# Altium schematic symbol library laihi.SchLib: 296 symbols (part 1 of 3)
Pins are listed as number, name and electrical type; pins without a type are passive.

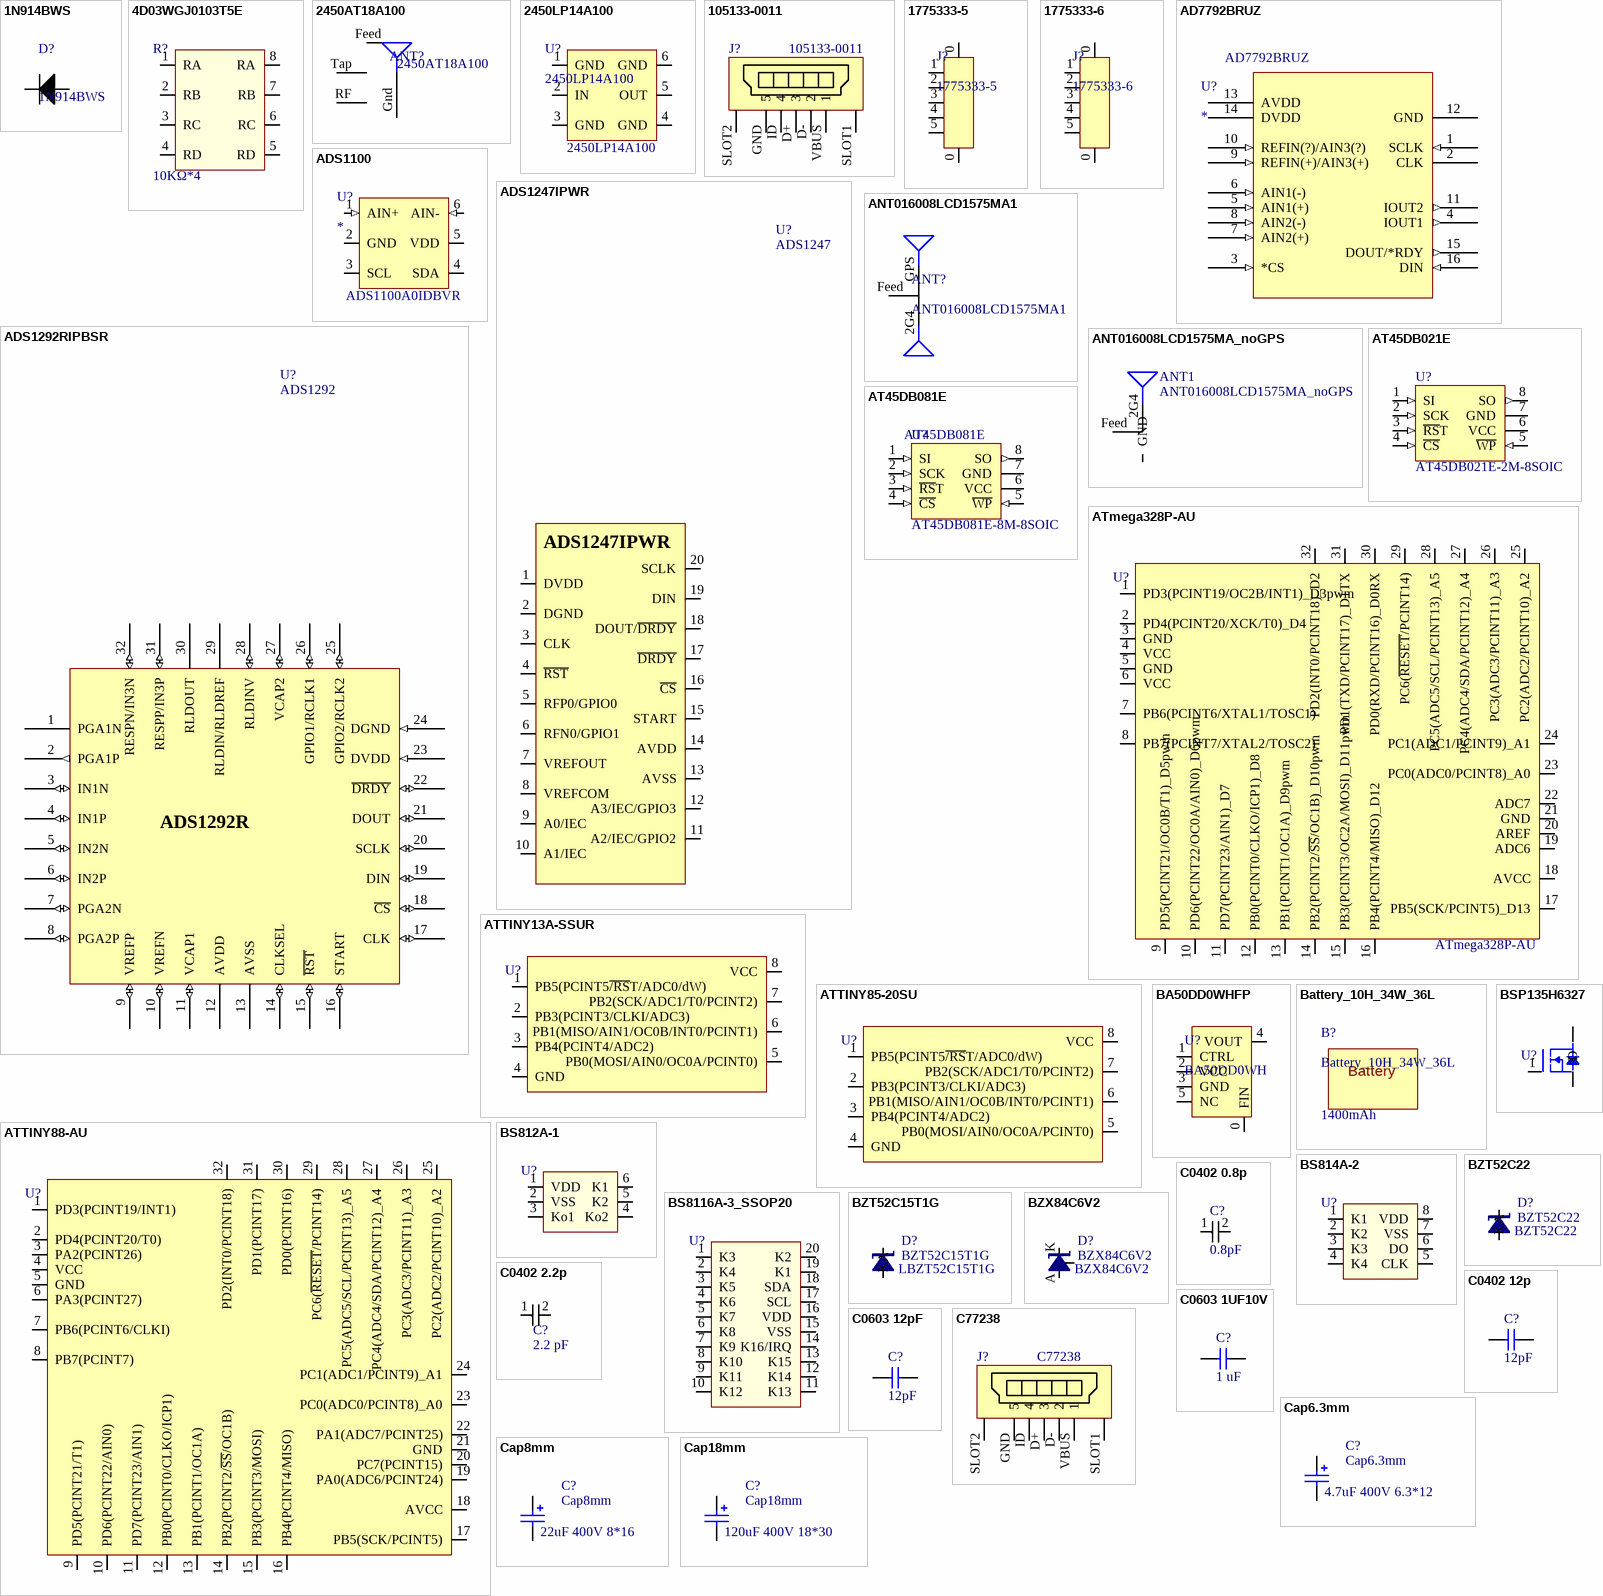
[diagram p0: symbols 1N914BWS to Cap18mm]

## 1N914BWS
designator D?
DIODE Small Signal Switching 4ns 5mA@0.7V; Manufacturer: Fairchild; MaxRating: 75V; Note: 替代 1N4148WS; Manufacturer No: 1N914BWS; Supplier: LC; Supplier_PN: C57759; PartType: SM; Pin Count: 2
footprint SOD-323FL-2N (SODFL, 2-Leads, Body 1.25x2.55mm, IPC Medium Density)
pins: 1, 2

## 4D03WGJ0103T5E
designator R?  value 10KΩ*4  (hidden comment: 4D03WGJ0103T5E)
10KΩ *4 (103) ±5% 编带 排阻 resistor array; Manufacturer: LC; Manufacturer No: 4D03WGJ0103T5E; Pins: 8; Supplier: LC; Supplier_PN: C29718; SuppliersPartNumber: C29718
footprint ARRAY0603-80P319X159-8N (Chip Array, Flat, 8-Leads, Pitch 0.80mm,  Body 3.20x1.60mm,  IPC Medium Density)
pins: 1 RA, 2 RB, 3 RC, 4 RD, 5 RD, 6 RC, 7 RB, 8 RA

## 2450AT18A100
designator ANT?
2.4GHz Mini Antenna, SMT; Manufacturer: Johanson; Manufacturer No: 2450AT18A100; Value: 2.4GHz Mini Antenna,; Supplier: LC; Supplier_PN: C89334; Comment_1: 2450AT18A100
footprint 2450AT18A100E (2.4GHz Mini Antenna,)
pins: Feed, Gnd, RF, Tap

## 2450LP14A100
designator U?
2.4 GHz Low Pass Filter; Manufacturer: JOHANSON; Pin Count: 6; Supplier: DigiKey; Supplier_PN: 712-1129-1-ND; Value: 2450LP14A100
footprint SON_0P5_2450LP14A100T (SON, 6-Leads, Body 1.60x0.80mm, Pitch 0.50mm, 2450LP14A100T 2.45G Low Pass Filter)
pins: 1 GND, 2 IN (io), 3 GND, 4 GND, 5 OUT (io), 6 GND

## 105133-0011
designator J?
I/F CONN Micro-USB Type:B vertical 100Vac 1A0 Contact:0R05 Molex:105133-0011 SMD; Manufacturer: Molex; Part Number: 105133-0011; Supplier: Digikey; Supplier_PN: WM10134CT-ND; Pin Count: 6; Manufacturer No: 105133-0011; PartType: SM
footprint 105133-0011 (Micro USB Type-B SMT vertical)
3D model 1051330011 (PCB3D Model)
pins: D+ 3, D- 2, GND 5, ID 4, SLOT1, SLOT2, VBUS 1

## 1775333-5
designator J?
CONN FPC BOTTOM 5POS 0.50MM R/A
footprint FFC_CONNECT_5
pins: 0, 0, 1, 2, 3, 4, 5

## 1775333-6
designator J?
CONN FPC BOTTOM 5POS 0.50MM R/A
footprint FFC_CONNECT_6
pins: 0, 0, 1, 2, 3, 4, 5

## AD7792BRUZ
designator U?  value AD7792BRUZ
IC ADC 16BIT SIG-DEL 3CH 16TSSOP; Type: DEV; Pin Count: 16; Supplier: Mouser; Supplier_PN: 584-AD7792BRUZ
footprint RU_16
pins: 1 SCLK (in), 2 CLK, 3 *CS (in), 4 IOUT1 (out), 5 AIN1(+) (in), 6 AIN1(-) (in), 7 AIN2(+) (in), 8 AIN2(-) (in), 9 REFIN(+)/AIN3(+) (in), 10 REFIN(?)/AIN3(?) (in), 11 IOUT2 (out), 12 GND, 13 AVDD (power), 14 DVDD (power), 15 DOUT/*RDY (out), 16 DIN (in)

## ADS1100
designator U?  value ADS1100A0IDBVR
IC ADC 16BIT Self-Cal 1chan 3-5V 90uA; Pin Count: 6; Supplier: LC; Supplier_PN: C23361
footprint SOT23-6 (TSOP, 6-Leads, Body 2.90x1.60mm, Pitch 0.95mm, IPC Medium Density)
pins: 1 AIN+ (in), 2 GND, 3 SCL (io), 4 SDA (io), 5 VDD, 6 AIN- (in)

## ADS1247IPWR
designator U?, comment ADS1247
ADS124x 24-Bit, 2-kSPS, Analog-To-Digital Converters, 5V supply; Manufacturer: Ti; Manufacturer No: ADS1247IPWR; Value: ADS1247IPWR; Part Number: ADS1247; Footprint: TSSOP20; Pin Count: 20; Supplier: LC; Supplier_PN: C26439; PartType: SM
footprint TSOP65P640X120-20N (TSOP, 20-Leads, Body 6.50x4.40mm, Pitch 0.65mm, IPC Medium Density)
pins: 1 DVDD (power), 2 DGND (power), 3 CLK (io), 4 ~{RST} (io), 5 RFP0/GPIO0 (io), 6 RFN0/GPIO1 (io), 7 VREFOUT (io), 8 VREFCOM (io), 9 A0/IEC (io), 10 A1/IEC (io), 11 A2/IEC/GPIO2 (io), 12 A3/IEC/GPIO3 (io), 13 AVSS (power), 14 AVDD (power), 15 START (io), 16 ~{CS} (io), 17 ~{DRDY} (io), 18 DOUT/~{DRDY} (io), 19 DIN (io), 20 SCLK (io)

## ADS1292RIPBSR
designator U?, comment ADS1292
2-Ch, 24Bits AFE ADC 8kSPS 2.7V~5.25V supply with respiration monitor; Part Number: ADS1292R; Manufacturer: Ti; Manufacturer No: ADS1292RIPBSS; Value: ADS1292RIPBSR; Datasheet: *; Footprint: QFN-48; Pin Count: 32; Supplier: Digi-Key; Supplier_PN: 296-30389-2-ND; PartType: SM
footprint TSQFP50P700X700X120-32N (TSQFP, 32-Leads, Body 5.00x5.00mm, Pitch 0.50mm, IPC Medium Density)
pins: 1 PGA1N (power), 2 PGA1P (out), 3 IN1N (io), 4 IN1P (io), 5 IN2N (io), 6 IN2P (io), 7 PGA2N (io), 8 PGA2P (io), 9 VREFP (io), 10 VREFN (io), 11 VCAP1 (io), 12 AVDD (power), 13 AVSS (power), 14 CLKSEL (io), 15 ~{RST} (io), 16 START (io), 17 CLK (io), 18 ~{CS} (io), 19 DIN (io), 20 SCLK (io), 21 DOUT (io), 22 ~{DRDY} (io), 23 DVDD (in), 24 DGND (in), 25 GPIO2/RCLK2 (io), 26 GPIO1/RCLK1 (io), 27 VCAP2 (io), 28 RLDINV (io), 29 RLDIN/RLDREF (power), 30 RLDOUT (power), 31 RESPP/IN3P (io), 32 RESPN/IN3N (io), 49 (power) hidden to GND

## ANT016008LCD1575MA1
designator ANT?, comment Comment_1: ANT016008LCD1575MA1  (hidden comment: C92014)
Dual Band 1.575GHz GPS and 2.4GHz; Manufacturer: TDK; Manufacturer No: ANT161575DT-2000AM1; Value: 1.575G and 2.4G; Supplier: LC; Supplier_PN: C92014
footprint ANT016008LCD1575MA1 (TDK Multilayer Antenna GPS and 2.4G~2.484G)
pins: 2G4, Feed, GPS

## ANT016008LCD1575MA_noGPS
designator ANT1
Dual Band 1.575GHz GPS and 2.4GHz; Manufacturer: TDK; Manufacturer No: ANT161575DT-2000AM1; Value: 1.575G and 2.4G; Supplier: LC; Supplier_PN: C92014
footprint ANT016008LCD1575MA1_GND_mcut (双频天线)
pins: 2 GND, 2G4, Feed

## AT45DB021E
designator U?, comment AT45DB021E-2M-8SOIC
IC FLASH 2MBIT 70MHZ 8SOIC; Manufacturer: Adesto Technologies; Manufacturer No: AT45DB021E-SSHN-T; Part Number: AT45DB021E; Supplier_PN: 1265-1081-1-ND; PartType: SM; Pin Count: 8; Supplier: Digi-Key; Value: AT45DB021E
footprint SO8-STX
3D model SOIC8
pins: 1 SI (in), 2 SCK (in), 3 ~{RS}T (in), 4 ~{CS} (in), 5 ~{WP} (in), 6 VCC (power), 7 GND (power), 8 SO (out)

## AT45DB081E
designator U?, comment AT45DB081E-8M-8SOIC  value AT45DB081E
IC FLASH 8MBIT 85MHZ 8SOIC; Manufacturer: Adesto Technologies; Manufacturer No: AT45DB081E-SSHN-T; Part Number: AT45DB081E; Supplier_PN: 1265-1085-1-ND; PartType: SM; Pin Count: 8; Supplier: Digi-Key
footprint SO8-STX
3D model SOIC8
pins: 1 SI (in), 2 SCK (in), 3 ~{RS}T (in), 4 ~{CS} (in), 5 ~{WP} (in), 6 VCC (power), 7 GND (power), 8 SO (out)

## ATmega328P-AU
designator U?
-40~85C 8-bit MCU AVR  enhanced RISC architecture, TQFP 32pin, 7x7mm; Manufacturer: Atmel; SuppliersPartNumber: C14877; Supplier: LC; Supplier_PN: C14877; Manufacturer No: ATmega328P-AU
footprint TQFP80P900X900X120-32N (TQFP, 32-Leads, Body 7.00x7.00mm, Pitch 0.80mm, IPC Medium Density)
pins: 1 PD3(PCINT19/OC2B/INT1)_D3pwm, 2 PD4(PCINT20/XCK/T0)_D4, 3 GND, 4 VCC, 5 GND, 6 VCC, 7 PB6(PCINT6/XTAL1/TOSC1), 8 PB7(PCINT7/XTAL2/TOSC2), 9 PD5(PCINT21/OC0B/T1)_D5pwm, 10 PD6(PCINT22/OC0A/AIN0)_D6pwm, 11 PD7(PCINT23/AIN1)_D7, 12 PB0(PCINT0/CLKO/ICP1)_D8, 13 PB1(PCINT1/OC1A)_D9pwm, 14 PB2(PCINT2/~{SS}/OC1B)_D10pwm, 15 PB3(PCINT3/OC2A/MOSI)_D11pwm, 16 PB4(PCINT4/MISO)_D12, 17 PB5(SCK/PCINT5)_D13, 18 AVCC, 19 ADC6, 20 AREF, 21 GND, 22 ADC7, 23 PC0(ADC0/PCINT8)_A0, 24 PC1(ADC1/PCINT9)_A1, 25 PC2(ADC2/PCINT10)_A2, 26 PC3(ADC3/PCINT11)_A3, 27 PC4(ADC4/SDA/PCINT12)_A4, 28 PC5(ADC5/SCL/PCINT13)_A5, 29 PC6(~{RESET}/PCINT14), 30 PD0(RXD/PCINT16)_D0RX, 31 PD1(TXD/PCINT17)_D1TX, 32 PD2(INT0/PCINT18)_D2

## ATTINY13A-SSUR
designator U?  (value not drawn)
ATTINY13A-SSUR 编带 SOIC-8_150mil; Manufacturer: Atmel; SuppliersPartNumber: C40382; Supplier: LC; Supplier_PN: C40382; Manufacturer No: ATTINY13A-SSUR
footprint SOIC-8N-127P600 (SOIC Atmel 8S1 8pin 4mm by 5mm)
pins: 1 PB5(PCINT5~{/RS}T/ADC0/dW), 2 PB3(PCINT3/CLKI/ADC3), 3 PB4(PCINT4/ADC2), 4 GND, 5 PB0(MOSI/AIN0/OC0A/PCINT0), 6 PB1(MISO/AIN1/OC0B/INT0/PCINT1), 7 PB2(SCK/ADC1/T0/PCINT2), 8 VCC

## ATTINY85-20SU
designator U?  (value not drawn)
ATTINY85-20SU 编带 8S2封装 20MHz 8KRam; Manufacturer: Atmel; SuppliersPartNumber: C89852; Supplier: LC; Supplier_PN: C89852; Manufacturer No: ATTINY85-20SU
footprint SOIC8_ATMEL_8S2_8S1 (SOIC, 8-Leads, Body 5.25x5.30mm, Pitch 1.27mm, IPC Medium Density)
pins: 1 PB5(PCINT5~{/RS}T/ADC0/dW), 2 PB3(PCINT3/CLKI/ADC3), 3 PB4(PCINT4/ADC2), 4 GND, 5 PB0(MOSI/AIN0/OC0A/PCINT0), 6 PB1(MISO/AIN1/OC0B/INT0/PCINT1), 7 PB2(SCK/ADC1/T0/PCINT2), 8 VCC

## ATTINY88-AU
designator U?  (value not drawn)
ATTINY88-AU 编带 TQFP 封装 4MHz 8KRam; Manufacturer: Atmel; SuppliersPartNumber: https://item.taobao.com/item.htm?id=19753860362; Supplier: taobao; Supplier_PN: https://item.taobao.com/item.htm?id=19753860362; Manufacturer No: ATTINY88-AU
footprint TQFP80P900X900X120-32N (TQFP, 32-Leads, Body 7.00x7.00mm, Pitch 0.80mm, IPC Medium Density)
pins: 1 PD3(PCINT19/INT1), 2 PD4(PCINT20/T0), 3 PA2(PCINT26), 4 VCC, 5 GND, 6 PA3(PCINT27), 7 PB6(PCINT6/CLKI), 8 PB7(PCINT7), 9 PD5(PCINT21/T1), 10 PD6(PCINT22/AIN0), 11 PD7(PCINT23/AIN1), 12 PB0(PCINT0/CLKO/ICP1), 13 PB1(PCINT1/OC1A), 14 PB2(PCINT2/~{SS}/OC1B), 15 PB3(PCINT3/MOSI), 16 PB4(PCINT4/MISO), 17 PB5(SCK/PCINT5), 18 AVCC, 19 PA0(ADC6/PCINT24), 20 PC7(PCINT15), 21 GND, 22 PA1(ADC7/PCINT25), 23 PC0(ADC0/PCINT8)_A0, 24 PC1(ADC1/PCINT9)_A1, 25 PC2(ADC2/PCINT10)_A2, 26 PC3(ADC3/PCINT11)_A3, 27 PC4(ADC4/SDA/PCINT12)_A4, 28 PC5(ADC5/SCL/PCINT13)_A5, 29 PC6(~{RESET}/PCINT14), 30 PD0(PCINT16), 31 PD1(PCINT17), 32 PD2(INT0/PCINT18)

## BA50DD0WHFP
designator U?, comment BA50DD0WH
2A Fixed output LDO Rohm; Supplier 1: Digi-Key; Supplier Part Number 1: BA50DD0WHFPCT-ND
footprint HRP5 (2A Fixed output LDO Rohm)
pins: 0 FIN, 1 CTRL, 2 VCC, 3 GND, 4 VOUT, 5 NC

## Battery_10H_34W_36L
designator B?  value 1400mAh
Note: 无需焊接; Manufacturer: *; Manufacturer No: *; Supplier_PN: *; Supplier: 自供
footprint Battery_10H_34W_36L
text: Battery

## BS812A-1
designator U?  (value not drawn)
2键触摸; Manufacturer: Holtek; Manufacturer No: BS812A-1; Pins: 6; Supplier: LC; Supplier_PN: C81747
footprint SOT23-6 (TSOP, 6-Leads, Body 2.90x1.60mm, Pitch 0.95mm, IPC Medium Density)
pins: 1 VDD, 2 VSS, 3 Ko1, 4 Ko2, 5 K2, 6 K1

## BS814A-2
designator U?  (value not drawn)
4键触摸 串口; Manufacturer: Holtek; Manufacturer No: BS814A-2; Pins: 8; Supplier: LC; Supplier_PN: C81738
footprint SO8-STX
pins: 1 K1, 2 K2, 3 K3, 4 K4, 5 CLK, 6 DO, 7 VSS, 8 VDD

## BS8116A-3_SSOP20
designator U?  (value not drawn)
16键触摸 串口; Manufacturer: Holtek; Manufacturer No: BS8116A-3; Pins: 20; Supplier: LC; Supplier_PN: C89208
footprint SOP64P600X175-20N (SOP, 20-Leads, Body 8.66x3.90mm, Pitch 0.64mm, IPC Medium Density)
pins: 1 K3, 2 K4, 3 K5, 4 K6, 5 K7, 6 K8, 7 K9, 8 K10, 9 K11, 10 K12, 11 K13, 12 K14, 13 K15, 14 K16/IRQ, 15 VSS, 16 VDD, 17 SCL, 18 SDA, 19 K1, 20 K2

## BSP135H6327
designator U?  (value not drawn)
N-CHANNEL 600V depletion N-MOSFET 120mA; Manufacturer: Infineon Technologies; Manufacturer No: BSP135H6327; Pins: 4; Supplier: digikey; Supplier_PN: BSP135H6327XTSA1TR-ND
footprint SOT223 (SOT223, 4-Leads, Body 6.50x7.00mm (avg), Pitch 2.30mm, IPC Medium Density)
pins: 1 G, 2 D, 3 S, 4

## BZT52C15T1G
designator D?  value LBZT52C15T1G
SEMI DIODE ZENER LBZT52C15T1G  15V 500mW SMD SOD123; Manufacturer: LRC(乐山无线电); Manufacturer No: LBZT52C15T1G; Supplier: LC; Supplier_PN: C12748; PartType: SM; Pin Count: 2; MaxRating: 15V
footprint SOD123-DIODE-Schottky (SODFL, 2-Leads, Body 1.70x3.71mm, IPC Medium Density)
pins: 1 A, 2 K

## BZT52C22
designator D?
SEMI DIODE ZENER BZT52C22  22V 350mW SMD SOD123; Manufacturer: CJ江苏长电; Manufacturer No: BZT52C22; Supplier: LC; Supplier_PN: C2108; PartType: SM; Pin Count: 2; MaxRating: 22V; Value: BZT52C22
footprint SOD123-DIODE-Schottky (SODFL, 2-Leads, Body 1.70x3.71mm, IPC Medium Density)
pins: 1 A, 2 K

## BZX84C6V2
designator D?
SEMI DIODE ZENER BZX84C5V1 5V1 5% 350mW SMD SOT23; Manufacturer: Fairchild; MaxRating: 6.2; Part Number: BZX84C6V2; Manufacturer No: BZX84C6V2; Supplier: Digikey; Supplier_PN: BZX84C6V2FSCT-ND; PartType: SM; Pin Count: 3; Value: BZX84C6V2
3D model SOT23-3 (PCB3D Model)
footprint SOT23-A-NC-K (STX)
3D model SOT23
pins: ?1 NC, A, K

## C0402 0.8p
designator C?, comment 0.8pF
CAP CER 0.8pF 50V ?.1pF NP0 0402; Part Number: 0.8PF50V_0402; Manufacturer: Murata Electronics North America; Rating: COM; Manufacturer No: *; Supplier: Digi-Key; Supplier_PN: *; PartType: SM; ROHS: True; Pin Count: 2; MaxRating: 50V; Value: 0.8pF
3D model 0402-CAP (PCB3D Model)
footprint 0402-STX
pins: 1, 2

## C0402 2.2p
designator C?, comment 2.2 pF
CAP CER 2.2pF 50V ?.1pF NP0 0402; Part Number: 2.2PF50V_0402; Manufacturer: Murata Electronics North America; Manufacturer No: GRM1555C1H2R2BA01D; Rating: COM; Supplier: Digi-Key; Supplier_PN: 490-6227-1-ND; ComponentLink1URL: #http://search.murata.co.jp/Ceramy/image/img/A01X/G101/ENG/GRM1555C1H2R2BA01-01.pdf#; PartType: SM; ROHS: True; Pin Count: 2; Component Kind: Standard; MaxRating: 50V; Value: 2.2 pF
3D model 0402-CAP (PCB3D Model)
footprint 0402-STX
pins: 1, 2

## C0402 12p
designator C?, comment 12pF
Capacitor, NP0, 12pF, 50V; Part Number: C0402-12p; Manufacturer: *; Manufacturer No: *; Footprint: 0402; Pin Count: 2; Publisher: Nordic Semiconductor; Published: 2009-05-08; Note: 50V; Supplier: *; Supplier_PN: *; Value: 12pF
footprint 0402-STX
pins: 1, 2

## C0603 1UF10V
designator C?, comment 1 uF
Capacitor, X5R, 1uF, 10V; Part Number: C0603 1UF10V; Manufacturer: *; Manufacturer No: *; Footprint: 0603; Note: 10V; Supplier: *; Supplier_PN: *; Value: 1 uF
footprint 0603-STX (STX)
pins: 1, 2

## C0603 12pF
designator C?, comment 12pF
Capacitor, NP0, 12pF, 50V; Part Number: C0603 12pF; Manufacturer: *; Manufacturer No: *; Footprint: 0603; Pin Count: 2; Note: 50V; Supplier: *; Supplier_PN: *; Value: 12pF
footprint 0603-STX (STX)
pins: 1, 2

## C77238
designator J?
microUSB立创  全贴有柱无导位 平口外焊_PDF_C77238; Manufacturer: LC; Part Number: C77238; Supplier: LC; Supplier_PN: C77238; Pin Count: 5; Manufacturer No: C77238; PartType: SM
footprint C77238 (microUSB立创  全贴有柱无导位 平口外焊_PDF_C77238)
pins: D+ 3, D- 2, GND 5, ID 4, SLOT1, SLOT2, VBUS 1

## Cap6.3mm
designator C?  value 4.7uF 400V 6.3*12
Polarized Capacitor (Radial); Published: 8-Jun-2000; LatestRevisionDate: 17-Jul-2002; LatestRevisionNote: Re-released for DXP Platform.; PackageReference: RB7.6-15; Publisher: Altium Limited; PackageDescription: Polarized Capacitor (Radial); 2 Leads; SuppliersPartNumber: C106324; Supplier: LC
footprint RB6.3mm (Polarized Capacitor (Radial); 2 Leads)
simulation model CAP (Capacitor)
signal-integrity model Cap Pol
pins: 1, 2
1 alternate drawing of the same symbol

## Cap8mm
designator C?  value 22uF 400V 8*16
Polarized Capacitor (Radial); Published: 8-Jun-2000; LatestRevisionDate: 17-Jul-2002; LatestRevisionNote: Re-released for DXP Platform.; PackageReference: RB7.6-15; Publisher: Altium Limited; PackageDescription: Polarized Capacitor (Radial); 2 Leads; SuppliersPartNumber: C106586; Supplier: LC
footprint RB8mm (Polarized Capacitor (Radial); 2 Leads)
simulation model CAP (Capacitor)
signal-integrity model Cap Pol
pins: 1, 2
1 alternate drawing of the same symbol

## Cap18mm
designator C?  value 120uF 400V 18*30
Polarized Capacitor (Radial); Published: 8-Jun-2000; LatestRevisionDate: 17-Jul-2002; LatestRevisionNote: Re-released for DXP Platform.; PackageReference: RB7.6-15; Publisher: Altium Limited; PackageDescription: Polarized Capacitor (Radial); 2 Leads; SuppliersPartNumber: C46881; Supplier: LC
footprint RB18mm (Polarized Capacitor (Radial); 2 Leads)
simulation model CAP (Capacitor)
signal-integrity model Cap Pol
pins: 1, 2
1 alternate drawing of the same symbol

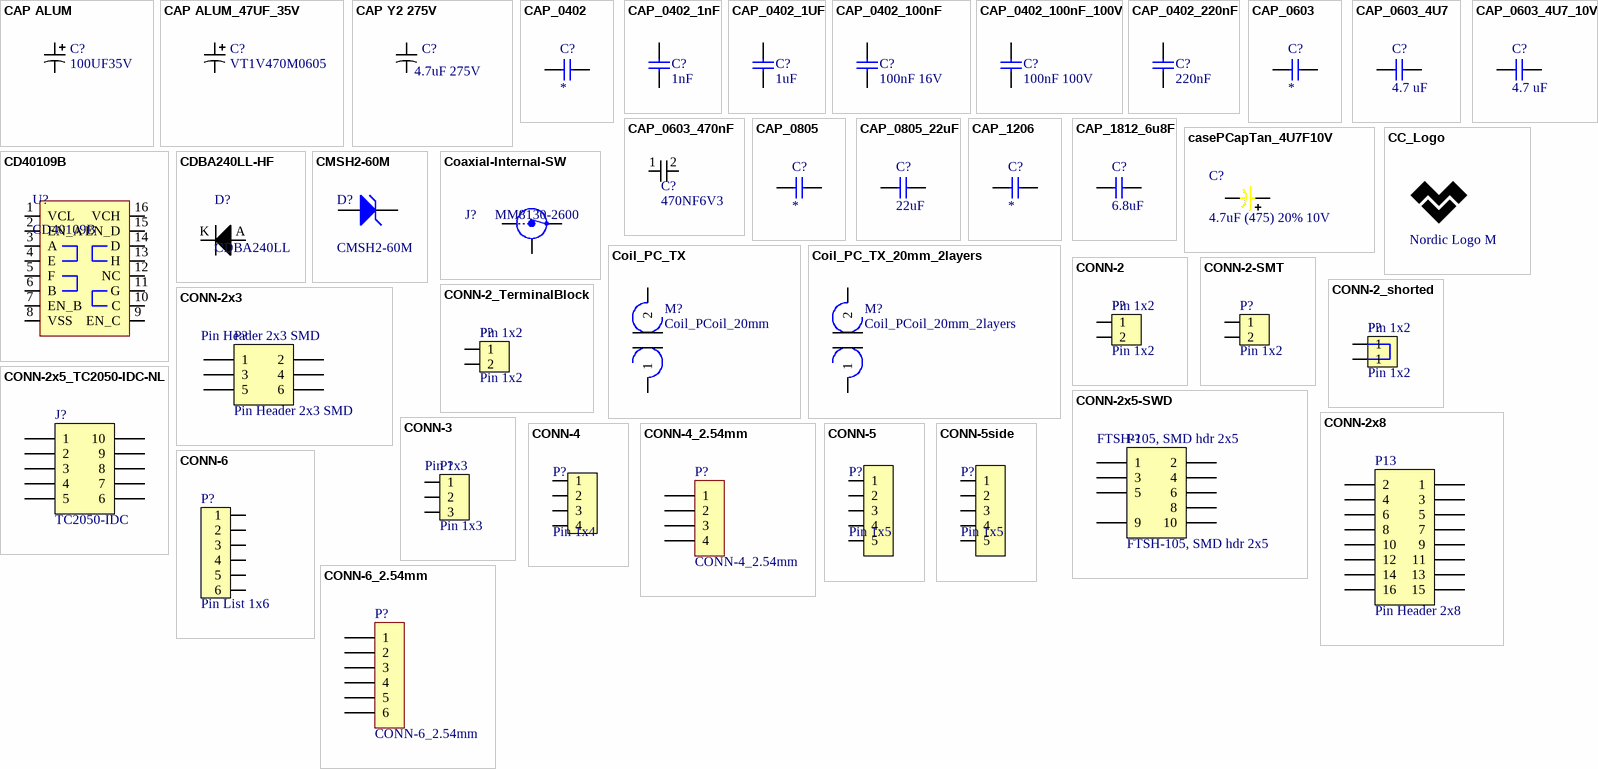
[diagram p1: symbols CAP ALUM to CONN-6_2.54mm]

## CAP ALUM
designator C?, comment 100UF35V
CAP ALUM 100UF 20% 35V SMD; Part Number: 100UF16V; Manufacturer: Panasonic; Manufacturer No: EEE-1VA101XP; Supplier: Digikey; Supplier_PN: PCE3951CT-ND; Pin Count: 2; Value: 100uF; MaxRating: 35V; PartType: SM
footprint EEE-1VA101XP (Aluminum Electrolytic Capacitor, Body 6.60x6.60x7.70mm, IPC Low Density)
pins: 1, 2

## CAP ALUM_47UF_35V
designator C?, comment VT1V470M0605
CAP ALUM 47UF 20% 35V SMD; Manufacturer: ROQANG; Part Number: VT1V470M0605; Supplier: LC; Supplier_PN: C90276; Pin Count: 2; Value: 47uF; MaxRating: 35V; Manufacturer No: VT1V470M0605; PartType: SM
footprint CAPAE7366X54N (Aluminum Electrolytic Capacitor, Body 6.60x6.60x5.40mm, IPC Medium Density)
pins: 1, 2

## CAP Y2 275V
designator C?, comment value 4.7uF 275V  (hidden comment: 4u7F275V)
CAP ALUM 100UF 20% 35V SMD; Part Number: C9342; Manufacturer: TENTA; Manufacturer No: MEY472K275A08; MaxRating: 275V; Supplier: LC; Supplier_PN: C9342; Pin Count: 2; PartType: SM
footprint Cap Y2 (CAP 13mm x 5mm Y2 CAP 275V)
pins: 1, 2

## CAP_0402
designator C?
Capacitor, NP0, ?%; Part Number: C0402; Note: 50V; Manufacturer: *; Manufacturer Part Number: *; Footprint: 0402; Pin Count: 2; Supplier: *; Supplier part number: *; Value: *
footprint 0402-STX
pins: 1, 2

## CAP_0402_1nF
designator C?, comment 1nF
Capacitor, X5R, 50V; Part Number: C0402; Manufacturer: *; Manufacturer Part Number: *; Footprint: 0402; Pin Count: 2; Note: 50V; Supplier: *; Supplier part number: 445-1256-1-ND; Value: 1nF; Supplier 1: Digi-Key; Supplier Part Number 1: 445-1256-1-ND
footprint 0402-STX
pins: 1, 2

## CAP_0402_1UF
designator C?, comment 1uF
Capacitor, X5R, 25V; Part Number: C0402; Manufacturer: *; Manufacturer Part Number: *; Footprint: 0402; Pin Count: 2; Note: 25V; Supplier: *; Supplier part number: 445-9081-1-ND; Value: 1uF
footprint 0402-STX
pins: 1, 2

## CAP_0402_100nF
designator C?, comment 100nF 16V
Capacitor, Y5V, 16V 100nF; Part Number: C0402; Manufacturer: Samsung; Manufacturer No: CL05F104ZO5NNNC; Footprint: 0402; Pin Count: 2; Note: 16V; Supplier: Digi-Key; Supplier_PN: 1276-1004-1-ND; Value: 100nF; MaxRating: 16V
footprint 0402-STX
pins: 1, 2

## CAP_0402_100nF_100V
designator C?, comment 100nF 100V
Capacitor, X5R, 100V 100nF; Part Number: C0402; Manufacturer: Murata; Manufacturer No: GRM155R62A104KE14D; Footprint: 0402; Pin Count: 2; Note: 100V; Supplier: Digi-Key; Supplier_PN: 490-10458-1-ND; Value: 100nF
footprint 0402-STX
pins: 1, 2

## CAP_0402_220nF
designator C?, comment 220nF
Capacitor, X5R, 35V 20%; Part Number: C0402; Manufacturer: Murata; Manufacturer No: GRM155R6YA224ME01D; Footprint: 0402; Pin Count: 2; Note: 35V; Supplier: Digi-Key; Supplier_PN: 490-10461-1-ND; Value: 220nF
footprint 0402-STX
pins: 1, 2

## CAP_0603
designator C?
Capacitor, X5R, ?0%; Part Number: C0603; Note: 10V; Manufacturer: *; Manufacturer Part Number: *; Footprint: 0603; Pin Count: 2; Supplier: *; Supplier part number: *; Value: *
footprint 0603-STX (STX)
pins: 1, 2

## CAP_0603_4U7
designator C?, comment 4.7 uF
Capacitor, X5R, 10% 4.7uF -55°C ~ 85°C; Part Number: C0603; Manufacturer: Murata Electronics; Manufacturer No: GRM188R6YA475KE15D; Note: 35V; Footprint: 0603; Pin Count: 2; Supplier: Digi-Key; Supplier_PN: 490-7205-1-ND; Value: 4.7 uF
footprint 0603-STX (STX)
pins: 1, 2

## CAP_0603_4U7_10V
designator C?, comment 4.7 uF
Capacitor, X5R, 10% 4.7uF -55°C ~ 85°C; Part Number: GRM188R61A475KE15D; Manufacturer: Murata Electronics; Note: 10V; Manufacturer No: GRM188R61A475KE15D; Footprint: 0603; Pin Count: 2; Supplier: LC; Supplier_PN: C71633; Value: 4.7 uF
footprint 0603-STX (STX)
pins: 1, 2

## CAP_0603_470nF
designator C?, comment 470NF6V3
CAP CER 0.47UF 50V 10% X5R 0603; Part Number: 470N6V3_0603; Manufacturer: Murata; Manufacturer No: GRM188R61H474KA12D; Value: 470nF; Supplier: Digikey; Supplier_PN: 490-11994-1-ND; PartType: SM; Pin Count: 2; Component Kind: Standard; MaxRating: 50V
simulation model CAP 0603
signal-integrity model CAP 0603
3D model 0603-CAP (PCB3D Model)
footprint 0603-STX (STX)
pins: 1, 2

## CAP_0805
designator C?
Capacitor, X5R, ?0%; Part Number: C0805; Note: 10V; Manufacturer: *; Manufacturer Part Number: *; Footprint: 0805; Pin Count: 2; Supplier: *; Supplier part number: *; Value: *
footprint 0805-STX (STX)
pins: 1, 2

## CAP_0805_22uF
designator C?, comment 22uF
Capacitor, X5R, CAP CER 22UF 25V X5R 0805; Manufacturer: Yageo; Manufacturer Part Number: CC0805MKX5R8BB226; Footprint: 0805; Pin Count: 2; Note: 25V; Supplier: Digi-key; Supplier_PN: 311-1903-2-ND; Value: 22uF
footprint 0805-STX (STX)
pins: 1, 2

## CAP_1206
designator C?
Capacitor, X5R, ?0%; Part Number: C1206; Note: 50V; Manufacturer: *; Manufacturer Part Number: *; Footprint: 1206; Pin Count: 2; Supplier: *; Supplier part number: *; Value: *
footprint 1206-STX (STX)
pins: 1, 2

## CAP_1812_6u8F
designator C?, comment 6.8uF
Capacitor, X5R, max 6.8uF 50V rating; Part Number: C0805; Manufacturer: TDK; Manufacturer Part Number: C4532X7R1H685M250KB; Footprint: 0805; Pin Count: 2; Note: 50V; Supplier: Digi-Key; Supplier_PN: 445-1449-1-ND; Value: 6.8uF
footprint CAPC4532X25N (Chip Capacitor C1812 size, 2-Leads, Body 4.50x3.20mm, IPC Medium Density)
pins: 1, 2

## casePCapTan_4U7F10V
designator C?, comment 4.7uF (475) 20% 10V
CA45P-P-10V-10uF-K; ComponentLink1Description: 供应商链接; ComponentLink1URL: https://item.szlcsc.com/140520.html; Package: CaseP2012; Supplier: LC; SuppliersPartNumber: C129234
footprint LC-CASE-P_2012
pins: 1, 2

## CC_Logo
designator LOGO?, comment Nordic Logo M  (no BOM)
CC logo; Artikkelnr Noca: N.A.; Part Number: Nordic Logo M; Manufacturer: *; Manufacturer Part Number: *; Datasheet: *; Footprint: NORDIC_LOGO_M; LatestRevisionDate: 2010-02-18; Pin Count: 2; Publisher: Nordic Semiconductor; Published: 2010-02-18; Value: Nordic Logo M; Note: *; Supplier: *; Supplier part number: *; 2nd source Supplier: *; 2nd source part number: *
footprint CC_Logo

## CD40109B
designator U?
wide range 3-20V uni-directional translator level-shifter
footprint RU_16
pins: 1 VCL, 2 EN_A, 3 A, 4 E, 5 F, 6 B, 7 EN_B, 8 VSS, 9 EN_C, 10 C, 11 G, 12 NC, 13 H, 14 D, 15 EN_D, 16 VCH

## CDBA240LL-HF
designator D?, comment CDBA240LL
DIODE Schottky 40V反向  350mV@2A SMA; Part Number: CDBA240LL-HF; Manufacturer: Comchip; MaxRating: 40V; Manufacturer No: CDBA240LL-HF; Supplier: Digikey; Supplier_PN: 641-1698-2-ND; PartType: SM; ROHS: True; Pin Count: 2
footprint SMA-DIODE
3D model SMA-DIODE
pins: A, K

## CMSH2-60M
designator D?
Zener Diode 2A 60V; Supplier_PN: CMSH2-60M TR13-ND; Supplier: Digi-key
simulation model ZENER (Diode)
signal-integrity model D Zener
footprint DIOC4326X26N (Chip Diode, 2-Leads, Body 4.30x2.63mm, IPC Medium Density)
pins: 1 A, 2 K

## Coaxial-Internal-SW
designator J?, comment MM8130-2600
Coaxial Connector with Switch; Manufacturer: Murata; 2nd source part number: 81-MM8130-2600RA2; Artikkelnr Noca: 55029011; Artikkelnr Simpro: N.A.; Part Number: MM8130-2600; Manufacturer Part Number: MM8130-2600; Datasheet: http://www.murata.com/products/catalog/pdf/o33e.pdf; LatestRevisionDate: 2014-04-24; Pin Count: 3; Publisher: Nordic Semiconductor; Published: 2014-04-24; Value: MM8130-2600; Note: *; Supplier: Digi-Key; Supplier part number: 490-4981-1-ND; 2nd source Supplier: Mouser; Footprint Doc: COAXIAL-SWF
footprint COAXIAL-SWF
pins: 1 IN, 2 Shield, 3 OUT

## Coil_PC_TX
designator M?, comment Coil_PCoil_20mm  (no BOM)
TX Coil with power coil only  20mm diameter; Part Number: Coil_PDC_20mm; Manufacturer: Customised; Manufacturer No: On Board Metal Track; Note: 板自带，无需焊接, On board drawing, No BOM; Supplier: None; Supplier_PN: None; PartType: SM; ROHS: True; Pin Count: 4
footprint Coil_PCoil_20mm
pins: 1, 2

## Coil_PC_TX_20mm_2layers
designator M?, comment Coil_PCoil_20mm_2layers  (no BOM)
TX Coil with power coil only  20mm diameter; Part Number: Coil_PDC_20mm; Manufacturer: Customised; Manufacturer No: On Board Metal Track; Note: 板自带，无需焊接, On board drawing, No BOM; Supplier: None; Supplier_PN: None; PartType: SM; ROHS: True; Pin Count: 4
footprint Coil_PCoil_20mm_2layers
pins: 1, 2

## CONN-2
designator P?, comment Pin 1x2
Pin List 1x2, 2.54mm (100mil); Artikkelnr Noca: 56019040; Part Number: Pin List 1x2; Manufacturer: *; Manufacturer Part Number: *; Datasheet: *; Footprint: LIST_1x2; LatestRevisionDate: 2009-12-12; Pin Count: 2; Publisher: Nordic Semiconductor; Published: 2009-12-12; Note: *; Supplier: *; Supplier part number: *; 2nd source Supplier: *; 2nd source part number: *; Value: Pin 1x2
footprint LIST_1x2
pins: 1, 2

## CONN-2-SMT
designator P?, comment Pin 1x2
Pin List 1x2, 2.00mm; Manufacturer: LC; Manufacturer Part Number: C64658; Part Number: Pin List 1x2; Footprint: LIST_1x2; Pin Count: 2; Note: *; Supplier: LC; Supplier_PN: C64658; Value: Pin 1x2
footprint B2B-PH-SM4 (SMT 2PIN connector male 2.00mm pitch)
pins: 1, 2

## CONN-2_shorted
designator P?, comment Pin 1x2
Shorted Pin List 1x2, 2.54mm (100mil); Artikkelnr Noca: 56019040; Part Number: Pin List 1x2; Manufacturer: *; Manufacturer Part Number: *; Datasheet: *; Footprint: LIST_1x2; LatestRevisionDate: 2009-12-12; Pin Count: 2; Publisher: Nordic Semiconductor; Published: 2009-12-12; Note: *; Supplier: *; Supplier part number: *; 2nd source Supplier: *; 2nd source part number: *; Value: Pin 1x2
footprint LIST_1x2_shorted
pins: 1, 1

## CONN-2_TerminalBlock
designator P?, comment Pin 1x2
Pin List 1x2, 5mm; Artikkelnr Noca: 56019040; Part Number: Pin List 1x2; Manufacturer: *; Manufacturer Part Number: *; Datasheet: *; Footprint: LIST_1x2; LatestRevisionDate: 2009-12-12; Pin Count: 2; Publisher: Nordic Semiconductor; Published: 2009-12-12; Note: *; Supplier: LC; SuppliersPartNumber: C8465; 2nd source Supplier: *; 2nd source part number: *; Value: Pin 1x2
footprint WJ500V-5.08-2P (Weco Type DS247-DS2 Header)
pins: 1, 2

## CONN-2x3
designator P?, comment Pin Header 2x3 SMD
Pin Header 2x3, SMD, 2.0mm; Part Number: Pin Header 2x3 SMD 2.0mm; Manufacturer: Sullins Connector Solutions; Manufacturer Part Number: NRPN032MAMP-RC; Artikkelnr Noca: 55019103; Datasheet: http://www.sullinscorp.com/catalogs/74_Page74-75_HEADER_.079_2mm_MALE.pdf; Footprint: HDR-2x3-SMD-2.0mm; LatestRevisionDate: 2010-02-24; Pin Count: 6; Publisher: Nordic Semiconductor; Published: 2010-02-24; Note: *; Supplier: Digi-Key; Supplier part number: S6008-03-ND; 2nd source Supplier: *; 2nd source part number: *; Value: Pin Header 2x3 SMD
footprint HDR-2x3-SMD-2.0mm
pins: 1, 2, 3, 4, 5, 6

## CONN-2x5-SWD
designator P?, comment FTSH-105, SMD hdr 2x5
SAMTEC - FTSH-105-01-L-DV - HEADER, 1.27MM, SMD, 10WAY; Manufacturer: Samtec; Manufacturer Part Number: FTSH-105-01-L-DV; Datasheet: http://www.farnell.com/datasheets/81359.pdf; Footprint: HDR_2x5-SMD-1.27mm-SWD; Note: HEADER, 1.27MM, SMD, 10WAY; Supplier: Digi-Key; Supplier_PN: FTSH-105-01-L-DV-TR-ND; Value: FTSH-105, SMD hdr 2x5
footprint HDR_2x5-SMD-1.27mm-SWD
pins: 1, 2, 3, 4, 5, 6, 8, 9, 10

## CONN-2x5_TC2050-IDC-NL
designator J?, comment TC2050-IDC  (no BOM)
CBL PLUG-OF-NAILS 10-PIN; Part Number: TC2050-IDC-NLFP; Manufacturer: Tag-Connect LLC; Manufacturer No: TC2050-IDC-NLFP; Datasheet: http://www.tag-connect.com/Materials/TC2050-IDC%20Datasheet.pdf; Value: TC2050-IDC; Supplier: Digi-Key; Supplier_PN: TC2050-IDC-NL-ND; Pin Count: 10; Footprint Doc: TC2050-IDC-NLFP
footprint TC2050-IDC-NLFP
pins: 1, 2, 3, 4, 5, 6, 7, 8, 9, 10

## CONN-2x8
designator P13, comment Pin Header 2x8
Pin Header 2x8, 2.54mm (100mil); Note: Not mounted; Artikkelnr Noca: N.A.; Part Number: Pin Header 2x8; Manufacturer: *; Manufacturer Part Number: *; Datasheet: *; Footprint Doc: HDR_2x8; LatestRevisionDate: 2009-12-12; Pin Count: 16; Publisher: Nordic Semiconductor; Published: 2009-12-12; Value: Pin Header 2x8; Supplier: *; Supplier part number: *; 2nd source Supplier: *; 2nd source part number: *; Artikkelnr Simpro: N.A.
footprint HDR_2x8 (Pin Header, 2.54mm through hole)
pins: 1, 2, 3, 4, 5, 6, 7, 8, 9, 10, 11, 12, 13, 14, 15, 16

## CONN-3
designator P?, comment Pin 1x3
Pin List 1x3, 2.54mm (100mil); Part Number: Pin List 1x3; Manufacturer: *; Manufacturer Part Number: *; Pin Count: 3; Note: *; Supplier: *; Supplier_PN: *; Value: Pin 1x3
footprint LIST_1x3
pins: 1, 2, 3 (power)

## CONN-4
designator P?, comment Pin 1x4
SMT Pin Connector Male 1x4, 2.00mm; Part Number: Pin List 1x4; Manufacturer: JST; Manufacturer No: B4B-PH-SM4; Pin Count: 4; Note: *; Supplier: Digi-Key; Supplier_PN: 455-1736-1-ND; Value: Pin 1x4; Supplier 1: Digi-Key; Supplier Part Number 1: 455-1736-1-ND
footprint B4B-PH-SM4 (SMT 4PIN connector male 2.00mm pitch)
pins: 1, 2, 3 (power), 4 (power)

## CONN-4_2.54mm
designator P?
2.54mm 4pin through hole
footprint CON4-2.54mm (Connector; Header; 6 Posi)
pins: 1, 2, 3, 4

## CONN-5
designator P?, comment Pin 1x5
SMT Pin Connector Male 1x5, 2.00mm, vertical; Part Number: Pin List 1x5; Manufacturer: JST; Manufacturer Part Number: B5B-PH-SM4-TB(LF)(SN); Note: vertical entry; Pin Count: 5; Supplier: Digikey; Supplier_PN: 455-1737-1-ND; Value: Pin 1x5
footprint B5B-PH-SM4 (SMT 5PIN connector male 2.00mm pitch)
pins: 1, 2, 3 (power), 4 (power), 5 (power)

## CONN-5side
designator P?, comment Pin 1x5
SMT Pin Connector Male 1x5, 2.00mm, horizontal; Part Number: Pin List 1x5; Manufacturer: JST; Manufacturer Part Number: S5B-PH-SM4-TB(LF)(SN); Note: Side entry; Pin Count: 5; Supplier: Digikey; Supplier_PN: 455-1752-1-ND; Value: Pin 1x5
footprint S5B-PH-SM4 (SMT 5PIN side entry connector male 2.00mm pitch)
pins: 1, 2, 3 (power), 4 (power), 5 (power)

## CONN-6
designator P?, comment Pin List 1x6
Pin List 1x6, 2.54mm (100mil), SMD; Part Number: Pin List 1x6 SMD; Note: Not mounted; Artikkelnr Noca: 55019252; Artikkelnr Simpro: N.A.; Manufacturer: *; Manufacturer Part Number: *; Datasheet: *; LatestRevisionDate: 2013-08-27; Pin Count: 6; Publisher: Nordic Semiconductor; Published: 2013-08-27; Value: Pin List 1x6; Supplier: Samtec; Supplier part number: TSM-106-01-L-SV-P-TR; 2nd source Supplier: *; 2nd source part number: *; Footprint Doc: LIST_1x6_SMD
footprint LIST_1x6_SMD
pins: 1, 2, 3 (power), 4 (power), 5 (power), 6 (power)

## CONN-6_2.54mm
designator P?
TH 2.54mm pitch 6 pins
footprint CON6-2.54mm (Connector; Header; 6 Positio)
pins: 1, 2, 3, 4, 5, 6

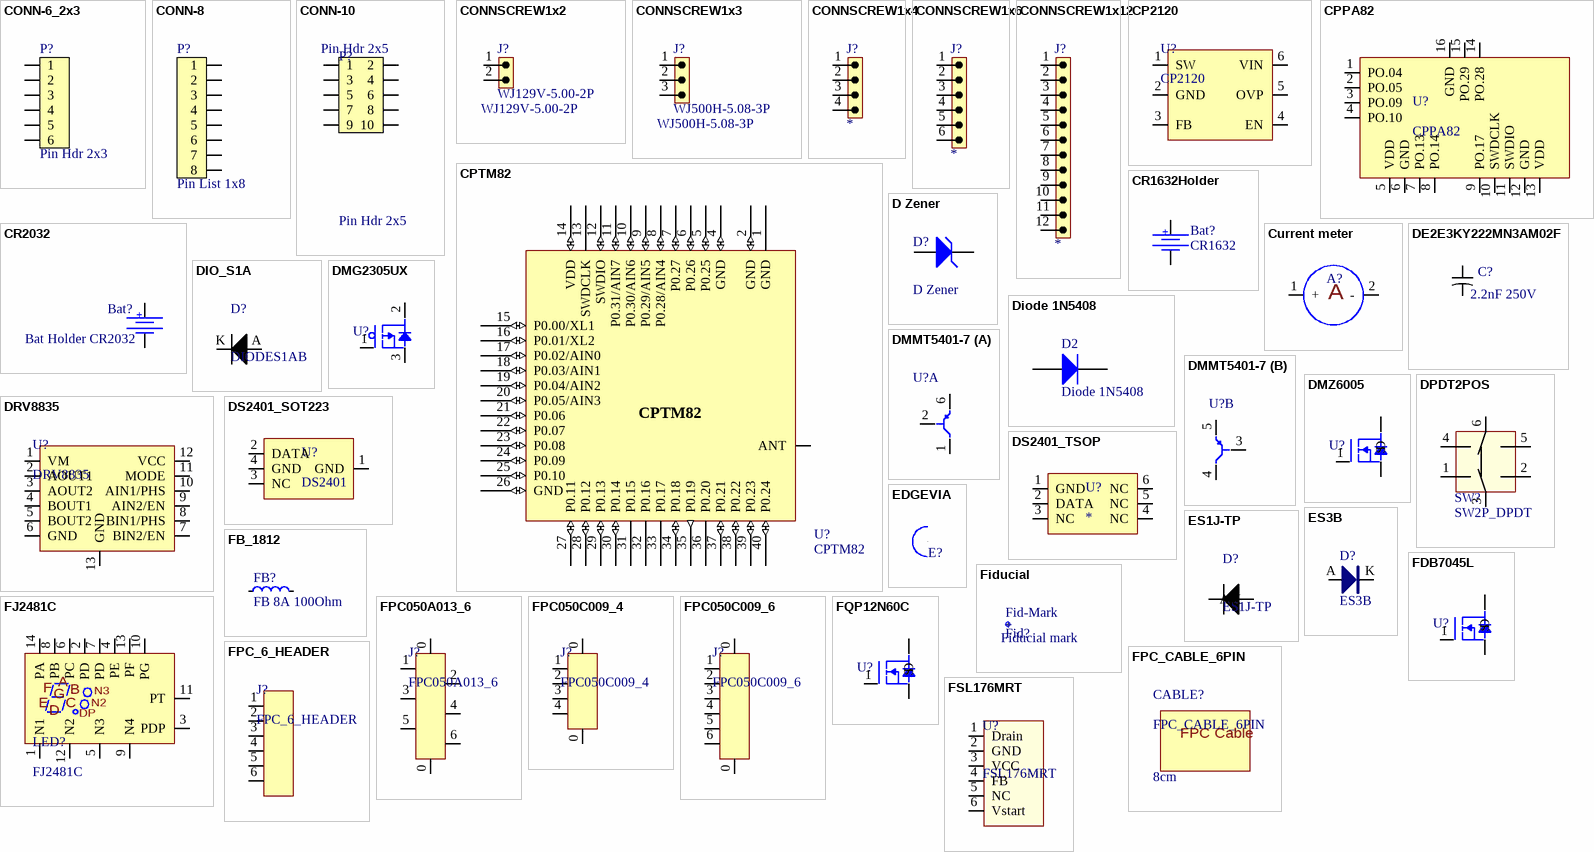
[diagram p2: symbols CONN-6_2x3 to FSL176MRT]

## CONN-6_2x3
designator P?, comment Pin Hdr 2x3
Pin Header 2x3, 2.54mm (100mil) SMD; Part Number: Pin Header 2x3 SMD; Manufacturer: WCON; Manufacturer Part Number: 1125-1203S0M116R1; 2nd source part number: TSM-103-01-L-DV; Artikkelnr Noca: 55010007; Artikkelnr Simpro: N.A.; Datasheet: \\hizz\pro\app9717\Datasheet\connectores\W-CON\1125-12XXXXMXXXXX.PDF; Footprint Doc: HDR_2x3-SMD; LatestRevisionDate: 2016-01-22; Pin Count: 6; Publisher: Nordic Semiconductor; Published: 2016-01-22; Value: Pin Hdr 2x3; Note: SMD; Supplier: Cabcon; Supplier part number: 1125-1203S0M116R1; 2nd source Supplier: Samtec
footprint HDR_2x3-SMD
pins: 1, 2, 3, 4, 5, 6

## CONN-8
designator P?, comment Pin List 1x8
Pin List 1x8, 2.54mm (100mil), SMD; Part Number: Pin List 1x8 SMD; Note: Not mounted; Artikkelnr Noca: 55019253; Artikkelnr Simpro: N.A.; Manufacturer: *; Manufacturer Part Number: *; Datasheet: *; LatestRevisionDate: 2013-08-27; Publisher: Nordic Semiconductor; Published: 2013-08-27; Value: Pin List 1x8; Supplier: Samtec; Supplier part number: TSM-108-01-L-SV-P-TR; 2nd source Supplier: *; 2nd source part number: *; Pin Count: 8; Footprint Doc: LIST_1x8_SMD
footprint LIST_1x8_SMD (Pin List, 2.54mm, SMD)
pins: 1, 2, 3 (power), 4 (power), 5 (power), 6 (power), 7 (power), 8 (power)

## CONN-10
designator P?, comment Pin Hdr 2x5
Pin Header 2x5, 2.54mm (100mil); Artikkelnr Noca: 56019114; Part Number: Pin Header 2x5; Manufacturer: *; Manufacturer Part Number: *; Datasheet: *; Footprint: HDR_2x5; LatestRevisionDate: 2009-12-12; Pin Count: 10; Publisher: Nordic Semiconductor; Published: 2009-12-12; Note: *; Supplier: *; Supplier part number: *; 2nd source Supplier: *; 2nd source part number: *; Value: Pin Hdr 2x5
footprint HDR_2x5
pins: 1 (power), 2 (power), 3 (power), 4 (power), 5 (power), 6 (power), 7 (power), 8 (power), 9 (power), 10 (power)

## CONNSCREW1x2
designator J?, comment WJ129V-5.00-2P
TERMINAL BLOCK 5MM VERT 2POS PCB 14-30AWG; Manufacture: KANGNEX; supplier: LC; supplier_PN: C8463; 网址: https://item.szlcsc.com/8957.html; Manufacture No: WJ129V-5.00-2P
footprint CONN_TH_5mm_2pins (5mm Pitch Low Profile Screw terminal)
pins: 1, 2

## CONNSCREW1x3
designator J?, comment WJ500H-5.08-3P
TERMINAL BLOCK 5MM VERT 3POS PCB 14-30AWG; Manufacture: KANGNEX; supplier: LC; supplier_PN: C8470; 网址: https://item.szlcsc.com/8964.html; Manufacture No: WJ500H-5.08-3P
footprint CONN_TH_5mm_3pins (5mm Pitch Low Profile Screw terminal)
pins: 1, 2, 3

## CONNSCREW1x4
designator J?
TERMINAL BLOCK 5MM VERT 4POS PCB 14-30AWG
footprint CONN_TH_5mm_4pins (5mm Pitch Low Profile Screw terminal)
pins: 1, 2, 3, 4

## CONNSCREW1x6
designator J?
TERMINAL BLOCK 5MM VERT 6POS PCB 14-30AWG
footprint CONN_TH_5mm_6pins (5mm Pitch Low Profile Screw terminal)
pins: 1, 2, 3, 4, 5, 6

## CONNSCREW1x12
designator J?
TERMINAL BLOCK 5MM VERT 12POS PCB 14-30AWG
footprint CONN_TH_5mm_12pins (5mm Pitch Low Profile Screw terminal)
pins: 1, 2, 3, 4, 5, 6, 7, 8, 9, 10, 11, 12

## CP2120
designator U?
IC CP2120 High-Brightness 3-V to 18-V Input 1.2-A Switch FET With 1.2-MHz Switching; Manufacturer: Chip Homer; Manufacturer No: CP2120_SOT236; Note: 18V supply max, 1.2A, 1.2MHz; Supplier: 携进; Supplier_PN: CP2120; Pins: 6
footprint TPS61165_SOT95P (SOT23, 6-Leads, Body 2.90x2.80mm, Pitch 0.95mm, IPC Medium Density)
pins: 1 SW, 2 GND, 3 FB, 4 EN, 5 OVP, 6 VIN

## CPPA82
designator U?
footprint CPPA82
pins: 1 PO.04, 2 PO.05, 3 PO.09, 4 PO.10, 5 VDD, 6 GND, 7 PO.13, 8 PO.14, 9 PO.17, 10 SWDCLK, 11 SWDIO, 12 GND, 13 VDD, 14 PO.28, 15 PO.29, 16 GND

## CPTM82
designator U?
Cleptrum BLE module; Part Number: CPTM82; Manufacturer: CLEPTRUM; Manufacturer No: CPTM82; LatestRevisionDate: 2016-11-24; Pin Count: 48; Note: *; Supplier: Nordic Semiconductor; Supplier_PN: 1490-1055-2-ND; Footprint: QFN-48
footprint CPTM82 (CLEPTRUM BLE module)
pins: 1 GND (power), 2 GND (io), 4 GND (io), 5 P0.25 (io), 6 P0.26 (io), 7 P0.27 (io), 8 P0.28/AIN4 (io), 9 P0.29/AIN5 (io), 10 P0.30/AIN6 (io), 11 P0.31/AIN7 (io), 12 SWDIO (io), 13 SWDCLK (power), 14 VDD (io), 15 P0.00/XL1 (io), 16 P0.01/XL2 (io), 17 P0.02/AIN0 (io), 18 P0.03/AIN1 (io), 19 P0.04/AIN2 (io), 20 P0.05/AIN3 (io), 21 P0.06 (io), 22 P0.07 (io), 23 P0.08 (io), 24 P0.09 (io), 25 P0.10 (io), 26 GND (io), 27 P0.11 (io), 28 P0.12 (io), 29 P0.13 (io), 30 P0.14 (io), 31 P0.15 (power), 32 P0.16 (power), 33 P0.17 (power), 34 P0.18 (io), 35 P0.19 (out), 36 P0.20 (power), 37 P0.21 (io), 38 P0.22 (io), 39 P0.23 (io), 40 P0.24 (io), ANT

## CR1632Holder
designator Bat?, comment CR1632
Bat Holder CR1632 SMD; Manufacturer: Keystone; Manufacturer Part Number: 3012; 2nd source part number: 165-0697; Artikkelnr Noca: N.A.; Part Number: Bat Holder CR1632 SMD; Datasheet: http://www.keyelco.com/product-pdf.cfm?p=790; Footprint: CR1632_HOLDER_SMD; LatestRevisionDate: 2014-01-13; Pin Count: 3; Publisher: Nordic Semiconductor; Published: 2014-01-13; Value: Bat Holder CR1632; Note: CR1632; Supplier: Digi-Key; Supplier part number: 3012K-ND; 2nd source Supplier: Farnell
footprint CR1632_HOLDER_SMD (CR1632 - SMD mount coin cell bat holder)
pins: 1, 2
text: +

## CR2032
designator Bat?, comment Bat Holder CR2032
Bat Holder CR2032 SMD; Manufacturer: Q&J 深圳琦捷; Manufacturer Part Number: BC-2001; Part Number: Bat Holder CR2032 SMD; Datasheet: http://www.szlcsc.com/product/pdf/B_C505BC1545EF21CB.PDF; Footprint Doc: CR2032_HOLDER_SMD; Pin Count: 3; Value: Bat Holder CR2032; Note: Bat Holder CR2032; Supplier: LC; Supplier_PN: C70373
footprint CR2032_HOLDER_SMD (CR2032 - SMD mount coin cell bat holder)
pins: 1, 2
text: +

## Current meter
designator A?  (value not drawn)
Current meter; Note: *
pins: 1 +, 2 -
text: A

## D Zener
designator D?
Zener Diode
simulation model ZENER (Diode)
signal-integrity model D Zener
pins: 1 A, 2 K

## DE2E3KY222MN3AM02F
designator C?  value 2.2nF 250V  (hidden comment: DE2E3KY222MN3AM02F)
CAP Y2 2.2nF 20% 250V SMD 7.5mm; Part Number: C96464; Manufacturer: muRata; MaxRating: 275V; Supplier: LC; Supplier_PN: C96464; Pin Count: 2; Manufacturer No: DE2E3KY222MN3AM02F; PartType: SM
footprint Cap Y2 7.5mm (CAP Y2 CAP 275V)
pins: 1, 2

## DIO_S1A
designator D?, comment DIODES1AB
DIODE S1A GEN PURPOSE 50V 1A SMB; Part Number: DIO_S1A; Manufacturer: Diodes Incorporated; Manufacturer No: S1AB-13-F; HRG_PN: 0; Rating: COM; Audit_Details: Nhan May-2014; Qualified: False; Supplier: Digikey; Supplier_PN: S1AB-FDICT-ND; ComponentLink1Description: Website; ComponentLink1URL: http://www.diodes.com/datasheets/ds16003.pdf; ComponentLink2Description: Approvals; PartType: SM; Verified: False; Obsolete: False; ROHS: True; Critical: False; Pin Count: 2; Component Kind: Standard; Component Type: Standard; MaxRating: 50V
footprint SMA-DIODE
3D model SMA-DIODE
pins: A, K

## Diode 1N5408
designator D2
3 Amp General Purpose Rectifier 1000V; Supplier: LC; SuppliersPartNumber: C2460
footprint DO-201AD-vert (Diode, Axial; Body 9.5 x 5.6 mm (LxDia. max), Lead Dia. 1.32 mm (max))
pins: 1 A, 2 K

## DMG2305UX
designator U?  (value not drawn)
P-CHANNEL ENHANCEMENT MODE MOSFET, 20V, 5A, 52mΩ @VGS = -4.5V; Manufacturer: DIODE; Manufacturer No: DMG2305UX-7; Note: P-CHANNEL ENHANCEMENT MODE MOSFET, 20V, 5A, 52mΩ @VGS = -4.5V; Pins: 3; Supplier: Digi-Key; Supplier_PN: DMG2305UX-13DITR-ND; SuppliersPartNumber: C150470; ComponentLink1URL: https://item.szlcsc.com/161808.html
footprint SOT23-3 (STX)
pins: 1 G, 2 S, 3 D

## DMMT5401-7
designator U?  (value not drawn)
150V MATCHED PNP SMALL SIGNAL SURFACE MOUNT TRANSISTOR; Manufacturer: DIODE; Manufacturer No: DMMT5401-7-F; Note: 150V MATCHED PNP SMALL SIGNAL SURFACE MOUNT TRANSISTOR; Pins: 6; Supplier: Digi-Key; Supplier_PN: DMMT5401-FDITR-ND; ComponentLink1URL: https://item.szlcsc.com/166075.html; SuppliersPartNumber: C154733
footprint TPS61165_SOT95P (SOT23, 6-Leads, Body 2.90x2.80mm, Pitch 0.95mm, IPC Medium Density)
part A pins: 1 C1, 2 B1, 6 E1
part B pins: 3 B2, 4 C2, 5 E2

## DMZ6005
designator U?  (value not drawn)
N-CHANNEL 600V depletion N-MOSFET 5-20mA; Manufacturer: ARK Microelectronics Co., Ltd; Manufacturer No: DMZ6005; Pins: 3; Supplier: taobao; Supplier_PN: https://item.taobao.com/item.htm?id=550634240079
footprint SOT23-3 (STX)
pins: 1 G, 2 S, 3 D

## DPDT2POS
designator SW?, comment SW2P_DPDT
SWITCH SLIDE DPDT 250MA 125V VER TH; Part Number: SLS2POS; Manufacturer: TE Connectivity; Manufacturer No: 1825115-1; Rating: IND; Supplier: Digi-Key; Supplier_PN: 450-1598-ND; PartType: TH; ROHS: True; Pin Count: 3
pins: 1, 2, 3, 4, 5, 6

## DRV8835
designator U?
DUAL LOW VOLTAGE H-BRIDGE IC; Supplier_PN: 296-30391-1-ND
footprint WSON127P600-12PIN (PowerPAD (WSON) - DSS)
pins: 1 VM, 2 AOUT1, 3 AOUT2, 4 BOUT1, 5 BOUT2, 6 GND, 7 BIN2/EN, 8 BIN1/PHS, 9 AIN2/EN, 10 AIN1/PHS, 11 MODE, 12 VCC, 13 GND

## DS2401_SOT223
designator U?, comment DS2401
Security ICs / Authentication ICs Silicon Serial Number; Manufacturer: Maxim Integrated; Manufacturer No: DS2401Z+; Pin Count: 6; Supplier: Digi-Key; Supplier_PN: DS2401Z+-ND
footprint SOT223_DS2401 (SOT223, 4-Leads, Body 6.50x7.00mm (avg), Pitch 2.30mm, IPC Medium Density)
pins: 1 GND, 2 DATA, 3 NC, 4 GND

## DS2401_TSOP
designator U?
Security ICs / Authentication ICs Silicon Serial Number; Pin Count: 6; Supplier: Digi-Key; Supplier_PN: DS2401Z+-ND
footprint TSOP127P430X150-6N (TSOP, 6-Leads, Body 3.93x3.76mm, Pitch 1.27mm, IPC Medium Density)
pins: 1 GND, 2 DATA, 3 NC, 4 NC, 5 NC, 6 NC

## EDGEVIA
designator E?, comment TestPad  (value not drawn)  (no BOM)
Regular Plated, 0.8mm half edge via; Part Number: TP_SMD_1.0MM; Manufacturer: Nordic Semiconductor; Note: Regular Plated, 1.0mm hole; Artikkelnr Noca: N.A.; Manufacturer Part Number: *; Datasheet: *; Footprint: TP_SMD_1.0mmX1.0mm; LatestRevisionDate: 2009-12-12; Pin Count: 1; Publisher: Nordic Semiconductor; Published: 2009-12-12; Supplier: *; Supplier part number: *; 2nd source Supplier: *; 2nd source part number: *; Value: TestPad
footprint EDGEVIA (Edge Vias)
pins: 1

## ES1J-TP
designator D?
DIODE SCHOTTKY 600V 1A super fast 35ns recovery; Manufacturer: Micro CC 美微科; Part Number: ES1J-TP; Manufacturer No: ES1J-TP; Supplier: LC; Supplier_PN: C86560; PartType: SM; Pin Count: 2; MaxRating: 600V; SuppliersPartNumber: C86560
footprint SMA-DIODE
pins: 1 A, 2 K, 3 A

## ES3B
designator D?
SEMI DIODE RECTIFIER ES3B 100V 3A Vf=0.9; Manufacturer: GENERAL SEMICONDUCTOR; Rating: IND; Qualified: False; Part Number: ES3B; Manufacturer No: ES3B; Supplier: Digikey; Supplier_PN: ES3B-E3/57TGICT-ND; PartType: SM; Verified: False; Obsolete: False; ROHS: True; Critical: False; Pin Count: 2; MaxRating: 100V
footprint SMC-DIODE
3D model SMC-DIODE (PCB3D Model)
pins: A, K

## FB_1812
designator FB?, comment FB 8A 100Ohm
Ferrite Chip Beads High current; Part Number: *; Manufacturer: *; Manufacturer No: *; Footprint: 1812; Pin Count: 2; Note: *; Supplier: *; Supplier_PN: 240-2543-1-ND; Value: FB 8A 100Ohm
footprint 1812-STX (1812 (or 4532 metric))
pins: 1, 2

## FDB7045L
designator U?  (value not drawn)
N-CHANNEL LogicLevel PowerTrench MOSFET, 30V, 100A, 4mΩ @VGS = 10V; Manufacturer: FairChild; Manufacturer No: FDB7045L; Note: N-CHANNEL LogicLevel PowerTrench MOSFET, 30V, 100A, 4mΩ @VGS = 10V; Pins: 3
footprint TO-220-3 (3-Lead FairChild Power Series)
pins: 1 G, 2 D, 3 S

## Fiducial
designator Fid?, comment Fiducial mark  Part Number: Fid-Mark
Artikkelnr Noca: N.A.; Manufacturer: *; Manufacturer Part Number: *; Datasheet: *; Footprint: Fiducial; LatestRevisionDate: 2009-12-12; Pin Count: 1; Publisher: Nordic Semiconductor; Published: 2009-12-12; Value: *; Note: *; Supplier: *; Supplier part number: *; 2nd source Supplier: *; 2nd source part number: *
footprint Fiducial

## FJ2481C
designator LED?
FJ2481CH 四位0.28英寸红色共阴数码管; Manufacturer: LC; Manufacturer No: FJ2481C; Supplier: LC; Supplier_PN: C10707; Pin Count: 14
footprint FJ2481 (2.54 mm pitch 2*7 LED 4 digits)
pins: 1 N1, 2 PD, 3 PDP, 4 PE, 5 N3, 6 PC, 7 PD, 8 PB, 9 N4, 10 PG, 11 PT, 12 N2, 13 PF, 14 PA
text: A; F; B; G; E; C; D; DP

## FPC050A013_6
designator J?
FPC 0.4A 50V 立贴滑盖 6pin  slidelock Vertical 6POS 0.50MM; Manufacturer: 芯鸿诺电子; Supplier_PN: https://item.taobao.com/item.htm?id=37914079562; Manufacturer No: FPC050A013_6; Note: 立贴滑盖
footprint FPC050A013_6 (0.5mm slidelock vertical 0.4A 50V Bottom contact FPC connector)
pins: 0, 0, 1, 2, 3, 4, 5, 6

## FPC050C009_4
designator J?
FPC 0.4A 50V BOTTOM fliplock 4POS 0.50MM hori; Supplier_PN: https://item.taobao.com/item.htm?id=42617401755
footprint FPC050C009_4 (0.3mm thickness 0.5mm pitch fliplock 0.4A 50V Bottom contact FPC connector)
pins: 0, 0, 1, 2, 3, 4

## FPC050C009_6
designator J?
FPC 0.4A 50V 下接翻盖 6POS 0.50MM hori; Manufacturer: 芯鸿诺电子; Note: 下接横贴翻盖; Supplier_PN: https://item.taobao.com/item.htm?id=37872023012; Manufacturer No: FPC050C009_6
footprint FPC050C009_6 (0.3mm thickness 0.5mm pitch fliplock 0.4A 50V Bottom contact FPC connector)
pins: 0, 0, 1, 2, 3, 4, 5, 6

## FPC_6_HEADER
designator J?
FPC 0.4A 50V 6POS 0.30MM thickness double-sided; Note: FPC 6通道连接 0.5mm 间距; Supplier_PN: 自制; Manufacturer No: FPC_6_HEADER; Manufacturer: FPC
footprint FPC0_6_0MM5_THICK (0.5mm pitch FPC 连接头部分)
pins: 1, 2, 3, 4, 5, 6

## FPC_CABLE_6PIN
designator CABLE?  value 8cm
FPC CABLE 6针排线; Manufacturer: 芯鸿诺电子; Note: 装配件，无需焊接; Supplier_PN: https://item.taobao.com/item.htm?id=42617401755; Pins: 6
footprint Empty
text: FPC Cable

## FQP12N60C
designator U?  (value not drawn)
N-CHANNEL 600V 12A 650mΩ @VGS = 10V; Manufacturer: FairChild; Manufacturer No: FQP12N60C; Pins: 3; Supplier: LC; Supplier_PN: C11769
footprint TO-220-3 (3-Lead FairChild Power Series)
pins: 1 G, 2 D, 3 S

## FSL176MRT
designator U?
Fairchild Power Switch builtin FET 600V  3.5A 50W~90W; MaxRating: 650V; Manufacturer: Fairchild; Manufacturer No: FSL176MRT; Supplier: taobao; Supplier_PN: https://item.taobao.com/item.htm?id=542860103962; PartType: TH; Pin Count: 6
footprint TO-220 (6-Lead FairChild Power Series)
pins: 1 Drain, 2 GND, 3 VCC, 4 FB, 5 NC, 6 Vstart

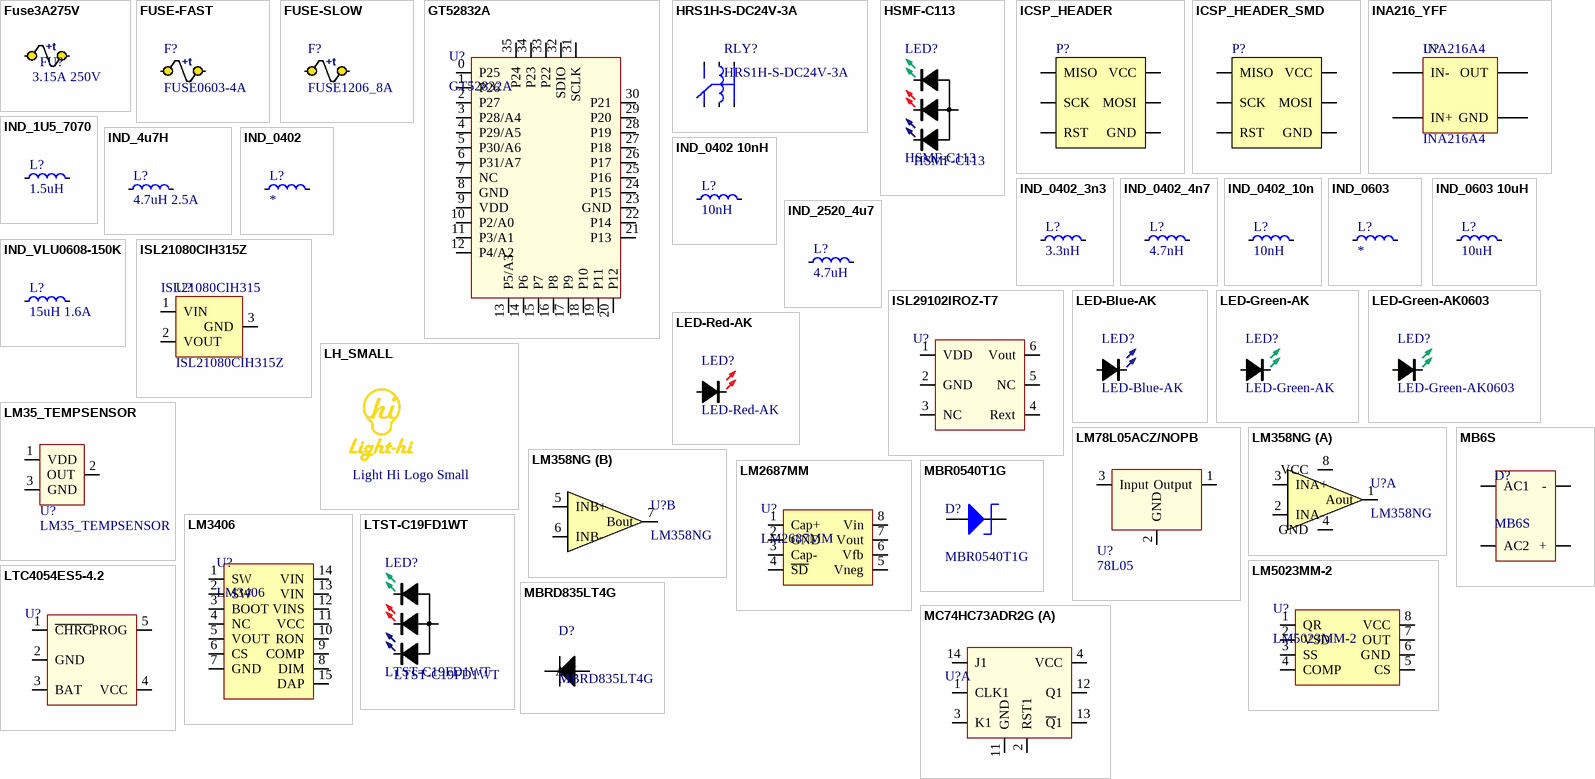
[diagram p3: symbols Fuse3A275V to MC74HC73ADR2G]

## Fuse3A275V
designator FU?  value 3.15A 250V  (hidden comment: Fuse3A275V)
CAP ALUM 100UF 20% 35V SMD; Part Number: 39213150000; Manufacturer: Littelfuse; MaxRating: 250V; Supplier: LC; Supplier_PN: C99567; Pin Count: 2; Manufacturer No: 39213150000; PartType: TH
footprint Fuse 250V LittleFuse (Fuse 8.5mm x 4mm 250V)
pins: 1, 2
text: +t

## FUSE-FAST
designator F?, comment FUSE0603-4A
ESD FUSE FAST 4A 32V DCR_Cold=0R019  I^2.t=0.0403 SM 0603; Part Number: MFU series; Manufacturer: Vishay; Manufacturer No: MFU0603FF04000P100; Supplier: Digikey; Supplier_PN: MFU06034.00TR-ND; PartType: SM; ROHS: True; Pin Count: 2; MaxRating: 32V
footprint 0603-STX (STX)
pins: 1, 2
text: +t

## FUSE-SLOW
designator F?, comment FUSE1206_8A
ESD FUSE SLOW 8A 24V DCR_Cold=0R070  I^2.t=16.9 SM 1206; Part Number: FUSE 2500MA; Manufacturer: TE Connectivity; Manufacturer No: 1206SFS800F/24-2; Supplier: Digikey; Supplier_PN: 1206SFS800F/24CT-ND; PartType: SM; ROHS: True; Pin Count: 2; MaxRating: 24V
footprint 1206-STX (STX)
pins: 1, 2
text: +t

## GT52832A
designator U?
nRF52832 module infolink; Manufacturer: 讯联电子; Manufacturer No: GT52832A; Pins: 20; Supplier: taobao; Supplier_PN: https://item.taobao.com/item.htm?id=532630623264
footprint GT82A01 (GT82A01 Bluetooth 4.0  Low Energy Module)
pins: 0 P25, 1 P26, 2 P27, 3 P28/A4, 4 P29/A5, 5 P30/A6, 6 P31/A7, 7 NC, 8 GND, 9 VDD, 10 P2/A0, 11 P3/A1, 12 P4/A2, 13 P5/A3, 14 P6, 15 P7, 16 P8, 17 P9, 18 P10, 19 P11, 20 P12, 21 P13, 22 P14, 23 GND, 24 P15, 25 P16, 26 P17, 27 P18, 28 P19, 29 P20, 30 P21, 31 SCLK, 32 SDIO, 33 P22, 34 P23, 35 P24

## HRS1H-S-DC24V-3A
designator RLY?
超小型继电器 DC24V 0.36W 50mOhm 360VA 72W; Manufacturer: HKE(汇港); Part Number: *; Manufacturer Part Number: HRS1H-S-DC24V-3A; Pin Count: 6; Note: *; Supplier: LC; Supplier part number: C113334
footprint HRS1H-S-DC24V-3A (15.6mm x 10.6mm relay)
pins: 1, 2, 3, 4, 5, 6

## HSMF-C113
designator LED?
OPTO LED TriColor RGB LED CHIP 2.5X1.0X1.0MM SMD; Manufacturer: Avago; Rating: IND; Manufacturer No: HSMF-C113; Supplier: Digi-Key; Supplier_PN: 516-2232-1-ND; ComponentLink1URL: #http://www.avagotech.com/docs/AV02-0611EN#; PartType: SM; ROHS: True; Pin Count: 4; Component Kind: Standard; Part Number: HSMF-C113
footprint HSMF-C113 (OPTO LED TRI_COLOR RGB HSMF-C113)
3D model HSMF-C11X
pins: A, KB, KG, KR

## ICSP_HEADER
designator P?, comment ICSP  (value not drawn)
Pin Header 2.54mm 2x3 ICSP, Serial Program pin header; Manufacturer: Dummy; Note: On board; Manufacturer Part Number: Dummy; Pin Count: 6; Supplier: Dummy; Supplier part number: Dummy; Value: ICSP
footprint HDR_2x3 (2x3 header 2.54mm)
pins: 1 MISO, 2 VCC, 3 SCK, 4 MOSI, 5 RST, 6 GND

## ICSP_HEADER_SMD
designator P?, comment ICSP  (value not drawn)
SMD Pin Header 2.54mm 2x3 ICSP, Serial Program pin header; Manufacturer: Dummy; Note: On board; Manufacturer Part Number: Dummy; Pin Count: 6; Supplier: Dummy; Supplier_PN: Dummy; Value: ICSP
footprint HDR_2x3-SMD (Board-Board Conn, Header, 6-way, 2-row)
pins: 1 MISO, 2 VCC, 3 SCK, 4 MOSI, 5 RST, 6 GND

## INA216_YFF
designator U?, comment INA216A4
TEXAS INSTRUMENTS - INA216A4YFFT - IC, CURRENT SHUNT MONITOR, 4DSBGA; 2nd source part number: 186-3102; Note: Gain 200V/V; Artikkelnr Noca: 17049269; Part Number: INA216A4; Manufacturer: Texas Instruments; Manufacturer No: INA216A4YFFT; Datasheet: http://www.ti.com/lit/ds/symlink/ina216a4.pdf; Footprint: WCSP-4; LatestRevisionDate: 2012-07-04; Pin Count: 4; Publisher: Nordic Semiconductor; Published: 2012-07-04; Supplier: Digi-Key; Supplier_PN: 296-28104-1-ND; 2nd source Supplier: Farnell; Value: INA216A4
footprint BGA4C40P2X2_76X76X62
pins: A1 IN+, A2 IN-, B1 GND, B2 OUT

## IND_1U5_7070
designator L?, comment 1.5uH
Fixed Inductors WE-HCI Flat 7040 1.5uH 11A 6.6mOhm; Part Number: *; Manufacturer: *; Manufacturer Part Number: *; Footprint: WE-HC4; LatestRevisionDate: 2011-12-06; Pin Count: 2; Note: *; Supplier: *; Supplier part number: *; Value: 1.5uH
footprint WE-HC4 (Inductor, Shielded Drum Core, Superflux, 1.5 μH, 11 A,  0.0078 ohm, SMD)
pins: 1, 2

## IND_4u7H
designator L?, comment 4.7uH 2.5A
工字电感 6*8mm 75mOhm 1.6A; Manufacturer: LC; Manufacturer Part Number: C36190; Part Number: *; Pin Count: 2; Note: *; Supplier: LC; SuppliersPartNumber: C36190; Value: 4.7uH 2.5A
footprint IND6mm (Polarized Inductor (Radial); 2 Leads)
pins: 1, 2

## IND_0402
designator L?
High frequency chip inductor ?0%; Part Number: *; Manufacturer: *; Manufacturer Part Number: *; Footprint: 0402; LatestRevisionDate: 2011-12-06; Pin Count: 2; Note: *; Supplier: *; Datasheet: http://www.yuden.co.jp/productdata/catalog/en/mlci04_e.pdf; Supplier part number: *; Value: *
footprint 0402-STX
pins: 1, 2

## IND_0402 10nH
designator L?, comment 10nH
High frequency chip inductor ?0%; Part Number: L0402-15n; Manufacturer: Taiyo Yuden; Manufacturer Part Number: HK100515NJ-T; 2nd source part number: 658-1328; Artikkelnr Noca: 33029323; Footprint: 0402; LatestRevisionDate: 2011-12-06; Pin Count: 2; Publisher: Nordic Semiconductor; Published: 2010-07-12; Note: *; Supplier: Digi-Key; Datasheet: http://www.yuden.co.jp/productdata/catalog/en/mlci04_e.pdf; Supplier part number: HK100510NJ-TV; 2nd source Supplier: Farnell; Supplier 1: Digi-Key; Supplier Part Number 1: 587-3997-6-ND; Value: 10nH
footprint 0402-STX
pins: 1, 2

## IND_0402_3n3
designator L?, comment 3.3nH
High frequency chip inductor err 0.3nH; Part Number: HK10053N3S-TV; Manufacturer: Taiyo Yuden; Note: 300MA 160 MOHM; Manufacturer No: HK10053N3S-TV; Footprint: 0402; Pin Count: 2; Supplier: Digi-Key; Supplier_PN: 587-3994-1-ND; Value: 3.3nH
footprint 0402-STX
pins: 1, 2

## IND_0402_4n7
designator L?, comment 4.7nH
High frequency chip inductor err 0.3nH; Part Number: HK10054N7S-TV; Manufacturer: Taiyo Yuden; Note: 300MA 210 MOHM; Manufacturer No: HK10054N7S-TV; Footprint: 0402; Pin Count: 2; Supplier: Digi-Key; Supplier_PN: 587-3995-1-ND; Value: 4.7nH
footprint 0402-STX
pins: 1, 2

## IND_0402_10n
designator L?, comment 10nH
High frequency chip inductor err 5%; Part Number: HK100510NJ-TV; Manufacturer: Taiyo Yuden; Note: 300MA 310 MOHM; Manufacturer No: HK100510NJ-TV; Footprint: 0402; Pin Count: 2; Supplier: Digi-Key; Supplier_PN: 587-3997-1-ND; Value: 10nH
footprint 0402-STX
pins: 1, 2

## IND_0603
designator L?
Chip Ind 0603; Part Number: *; Manufacturer: *; Manufacturer Part Number: *; Footprint: 0603; LatestRevisionDate: 2011-12-06; Pin Count: 2; Note: *; Supplier: *; Supplier part number: *; Value: *
footprint 0603-STX (STX)
pins: 1, 2